# Altium footprint library SOP8P65_300X640X120L100X25N.PcbLib: 1 footprints
Each footprint in its own frame and in the unit in brackets; x right, y up, seen from the top. Pads: shape width x height; smd on the part's side, far side on the other; paste and mask are expansions set on the pad; w line width, h text height; cw(c..) or ccw(c..) is an arc to the next point about the centre after c.
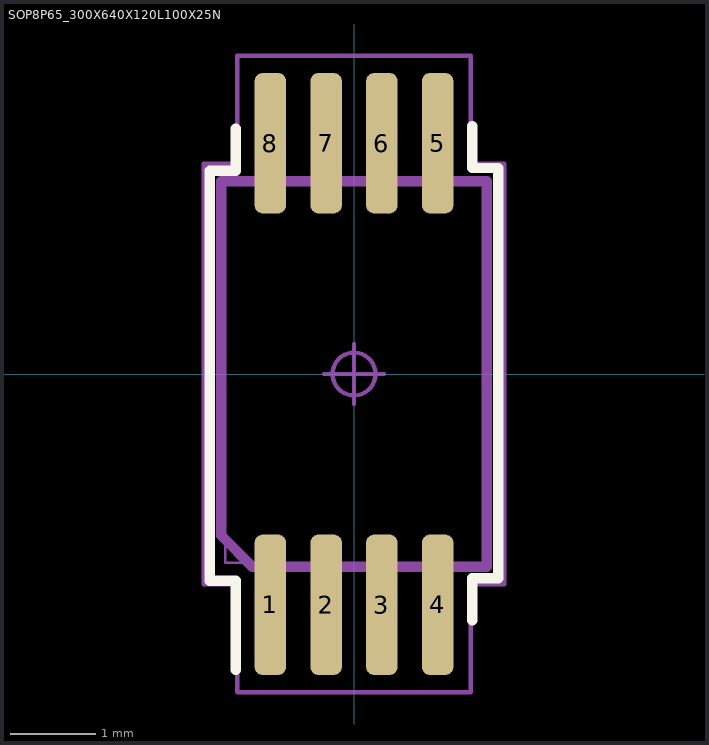
[diagram p0: the footprint, top view; thin cyan lines are the x and y axes]

## SOP8P65_300X640X120L100X25N [mm] "Small Outline Pkg (SOIC, SOP), 0.65 mm pitch; 8 pin, 3.00 mm L X 4.40 mm W X 1.20 mm H Body"
height 1.2
pads (8):
  rrect50% 0.369x1.635 smd: 1(-0.975,-2.69) 2(-0.325,-2.69) 3(0.325,-2.69) 4(0.975,-2.69) 5(0.975,2.69) 6(0.325,2.69) 7(-0.325,2.69) 8(-0.975,2.69)
Top Overlay:
  lines w0.12: -1.379,-3.448 -1.379,-2.41 -1.68,-2.41 -1.68,-1.72 -1.68,2.37 -1.379,2.37 -1.379,2.86 ; 1.379,-2.87 1.379,-2.38 1.68,-2.38 1.68,1.71 1.68,2.4 1.379,2.4 1.379,2.89
Mechanical 3:
  lines w0.12: -1.55,-1.879 -1.55,2.25 1.55,2.25 1.55,-2.25 -1.179,-2.25 -1.55,-1.879
Mechanical 5:
  lines w0.025: -1.5,-2.2 1.5,-2.2 1.5,2.2 -1.5,2.2 -1.5,-2.2 ; -1.1,-3.2 -1.1,-2.2 -0.85,-2.2 -0.85,-3.2 -1.1,-3.2 ; -1.1,2.2 -1.1,3.2 -0.85,3.2 -0.85,2.2 -1.1,2.2 ; -0.45,-3.2 -0.45,-2.2 -0.2,-2.2 -0.2,-3.2 -0.45,-3.2 ; -0.45,2.2 -0.45,3.2 -0.2,3.2 -0.2,2.2 -0.45,2.2 ; 0.2,-3.2 0.2,-2.2 0.45,-2.2 0.45,-3.2 0.2,-3.2 ; 0.2,2.2 0.2,3.2 0.45,3.2 0.45,2.2 0.2,2.2 ; 0.85,-3.2 0.85,-2.2 1.1,-2.2 1.1,-3.2 0.85,-3.2 ; 0.85,2.2 0.85,3.2 1.1,3.2 1.1,2.2 0.85,2.2
Mechanical 7:
  circle w0.05: c0,0 r0.25
  lines w0.05: -0.35,0 0.35,0 ; 0,-0.35 0,0.35 ; -1.75,-2.45 -1.359,-2.45 -1.359,-3.708 1.359,-3.708 1.359,-2.45 1.75,-2.45 1.75,2.45 1.359,2.45 1.359,3.708 -1.359,3.708 -1.359,2.45 -1.75,2.45 -1.75,-2.45
Mechanical 9:
  text "'.Designator'" at -5.817,-0.271 h1.02
3D body "SOP8P65_300X640X120L100X25.STEP": height 1.2, standoff 0, extent -1.5,-3.2 1.5,3.2
3D body: height 1.2, standoff 0, extent -1.75,-3.708 1.75,3.708